# Altium integrated library Dallas Power Mgt Supervisory Circuit.IntLib: 79 symbols (part 2 of 2)
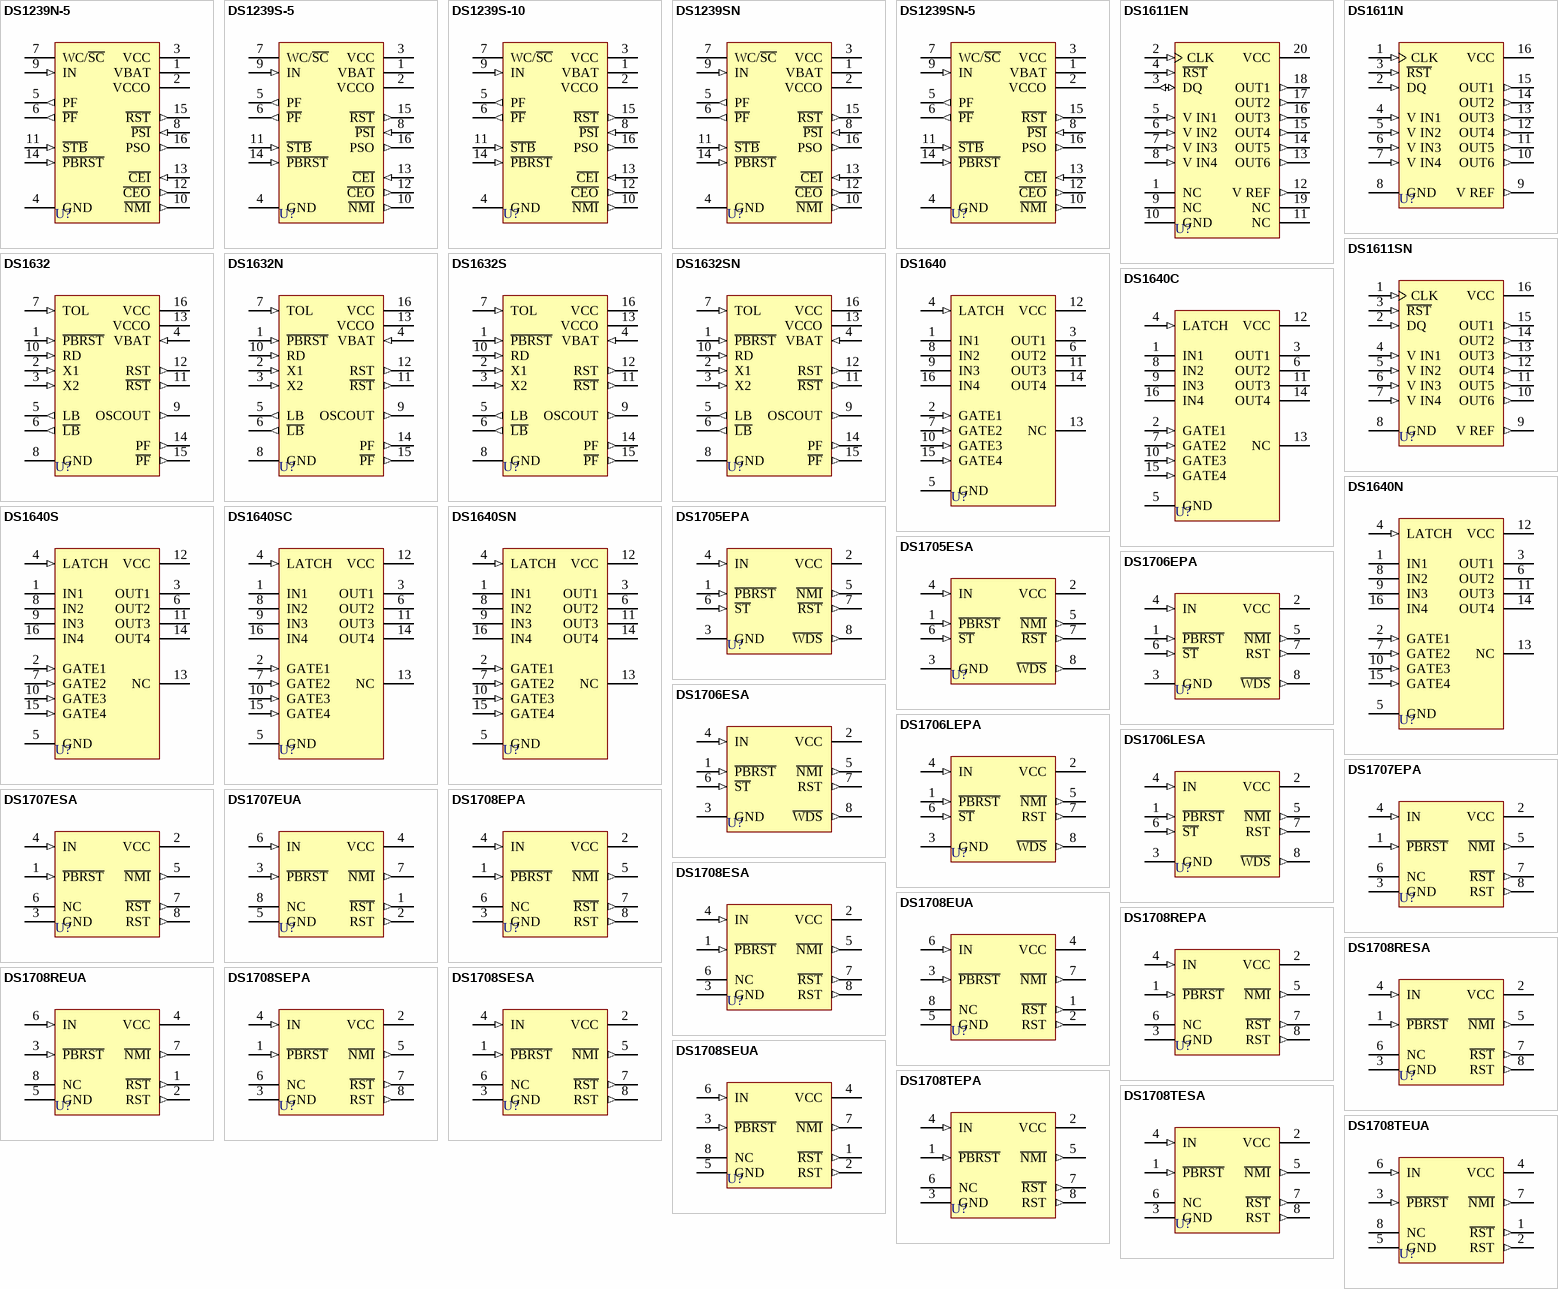
[diagram p2: symbols DS1239N-5 to DS1708TEUA]

## DS1706EPA
designator U?
3.3 and 5.0 Volt MicroMonitor; PackageDocument: 1999; Published: 13-Oct-2000; LatestRevisionDate: 06-Jun-2005; LatestRevisionNote: Stylized 3D Model Added.; DatasheetDocument: 4-Sep-1998; PackageReference: DIP8; Publisher: Altium Limited; ComponentLink1Description: Manufacturer Link; ComponentLink1URL: http://www.maxim-ic.com/; ComponentLink2Description: Datasheet; ComponentLink2URL: http://www.maxim-ic.com/getds.cfm?qv_pk=2761&ln=en
footprint DIP8 (DIP; 8 Leads; Row Spacing 7.62 mm; Pitch 2.54 mm)
3D model DIP8 (DIP; 8 Leads; Row Spacing 7.62 mm; Pitch 2.54 mm)
pins: 1 ~{PBRST} (in), 2 VCC (power), 3 GND (power), 4 IN (in), 5 ~{NMI} (out), 6 ~{ST} (in), 7 RST (out), 8 ~{WDS} (out)

## DS1706ESA
designator U?
3.3 and 5.0 Volt MicroMonitor; PackageDocument: 1999; Published: 13-Oct-2000; LatestRevisionDate: 06-Jun-2005; LatestRevisionNote: Stylized 3D Model Added.; DatasheetDocument: 4-Sep-1998; PackageReference: SOIC8N; Publisher: Altium Limited; ComponentLink1Description: Manufacturer Link; ComponentLink1URL: http://www.maxim-ic.com/; ComponentLink2Description: Datasheet; ComponentLink2URL: http://www.maxim-ic.com/getds.cfm?qv_pk=2761&ln=en
footprint SOIC8N (Small Outline; 8 Leads; Body Width 3.9 mm; Pitch 1.27 mm)
3D model SOIC8N (Small Outline; 8 Leads; Body Width 3.9 mm; Pitch 1.27 mm)
pins: 1 ~{PBRST} (in), 2 VCC (power), 3 GND (power), 4 IN (in), 5 ~{NMI} (out), 6 ~{ST} (in), 7 RST (out), 8 ~{WDS} (out)

## DS1706LEPA
designator U?
3.3 and 5.0 Volt MicroMonitor; PackageDocument: 1999; Published: 13-Oct-2000; LatestRevisionDate: 06-Jun-2005; LatestRevisionNote: Stylized 3D Model Added.; DatasheetDocument: 4-Sep-1998; PackageReference: DIP8; Publisher: Altium Limited; ComponentLink1Description: Manufacturer Link; ComponentLink1URL: http://www.maxim-ic.com/; ComponentLink2Description: Datasheet; ComponentLink2URL: http://www.maxim-ic.com/getds.cfm?qv_pk=2761&ln=en
footprint DIP8 (DIP; 8 Leads; Row Spacing 7.62 mm; Pitch 2.54 mm)
3D model DIP8 (DIP; 8 Leads; Row Spacing 7.62 mm; Pitch 2.54 mm)
pins: 1 ~{PBRST} (in), 2 VCC (power), 3 GND (power), 4 IN (in), 5 ~{NMI} (out), 6 ~{ST} (in), 7 RST (out), 8 ~{WDS} (out)

## DS1706LESA
designator U?
3.3 and 5.0 Volt MicroMonitor; PackageDocument: 1999; Published: 13-Oct-2000; LatestRevisionDate: 06-Jun-2005; LatestRevisionNote: Stylized 3D Model Added.; DatasheetDocument: 4-Sep-1998; PackageReference: SOIC8N; Publisher: Altium Limited; ComponentLink1Description: Manufacturer Link; ComponentLink1URL: http://www.maxim-ic.com/; ComponentLink2Description: Datasheet; ComponentLink2URL: http://www.maxim-ic.com/getds.cfm?qv_pk=2761&ln=en
footprint SOIC8N (Small Outline; 8 Leads; Body Width 3.9 mm; Pitch 1.27 mm)
3D model SOIC8N (Small Outline; 8 Leads; Body Width 3.9 mm; Pitch 1.27 mm)
pins: 1 ~{PBRST} (in), 2 VCC (power), 3 GND (power), 4 IN (in), 5 ~{NMI} (out), 6 ~{ST} (in), 7 RST (out), 8 ~{WDS} (out)

## DS1707EPA
designator U?
3.3 and 5.0 Volt MicroMonitor; PackageDocument: 1999; Note: Pin number 6 is Not Connected (NC); Published: 13-Oct-2000; LatestRevisionDate: 06-Jun-2005; LatestRevisionNote: Stylized 3D Model Added.; DatasheetDocument: 4-Sep-1998; PackageReference: DIP8; Publisher: Altium Limited; ComponentLink1Description: Manufacturer Link; ComponentLink1URL: http://www.maxim-ic.com/; ComponentLink2Description: Datasheet; ComponentLink2URL: http://www.maxim-ic.com/getds.cfm?qv_pk=2762&ln=en
footprint DIP8 (DIP; 8 Leads; Row Spacing 7.62 mm; Pitch 2.54 mm)
3D model DIP8 (DIP; 8 Leads; Row Spacing 7.62 mm; Pitch 2.54 mm)
pins: 1 ~{PBRST} (in), 2 VCC (power), 3 GND (power), 4 IN (in), 5 ~{NMI} (out), 6 NC, 7 ~{RST} (out), 8 RST (out)

## DS1707ESA
designator U?
3.3 and 5.0 Volt MicroMonitor; PackageDocument: 1999; Note: Pin number 6 is Not Connected (NC); Published: 13-Oct-2000; LatestRevisionDate: 06-Jun-2005; LatestRevisionNote: Stylized 3D Model Added.; DatasheetDocument: 4-Sep-1998; PackageReference: SOIC8N; Publisher: Altium Limited; ComponentLink1Description: Manufacturer Link; ComponentLink1URL: http://www.maxim-ic.com/; ComponentLink2Description: Datasheet; ComponentLink2URL: http://www.maxim-ic.com/getds.cfm?qv_pk=2762&ln=en
footprint SOIC8N (Small Outline; 8 Leads; Body Width 3.9 mm; Pitch 1.27 mm)
3D model SOIC8N (Small Outline; 8 Leads; Body Width 3.9 mm; Pitch 1.27 mm)
pins: 1 ~{PBRST} (in), 2 VCC (power), 3 GND (power), 4 IN (in), 5 ~{NMI} (out), 6 NC, 7 ~{RST} (out), 8 RST (out)

## DS1707EUA
designator U?
3.3 and 5.0 Volt MicroMonitor; Note: Pin number 8 is Not Connected (NC); Published: 13-Oct-2000; LatestRevisionDate: 06-Jun-2005; LatestRevisionNote: Stylized 3D Model Added.; DatasheetDocument: 4-Sep-1998; PackageReference: uSOP8; Publisher: Altium Limited; ComponentLink1Description: Manufacturer Link; ComponentLink1URL: http://www.maxim-ic.com/; ComponentLink2Description: Datasheet; ComponentLink2URL: http://www.maxim-ic.com/getds.cfm?qv_pk=2762&ln=en
footprint uSOP8 (Shrink Small Outline; 8 Leads; Body Width 3 mm; Pitch 0.65 mm)
3D model USOP8 (Shrink Small Outline; 8 Leads; Body Width 3 mm; Pitch 0.65 mm)
pins: 1 ~{RST} (out), 2 RST (out), 3 ~{PBRST} (in), 4 VCC (power), 5 GND (power), 6 IN (in), 7 ~{NMI} (out), 8 NC

## DS1708EPA
designator U?
3.3 and 5.0 Volt MicroMonitor; PackageDocument: 1999; Note: Pin number 6 is Not Connected (NC); Published: 13-Oct-2000; LatestRevisionDate: 06-Jun-2005; LatestRevisionNote: Stylized 3D Model Added.; DatasheetDocument: 4-Sep-1998; PackageReference: DIP8; Publisher: Altium Limited; ComponentLink1Description: Manufacturer Link; ComponentLink1URL: http://www.maxim-ic.com/; ComponentLink2Description: Datasheet; ComponentLink2URL: http://www.maxim-ic.com/getds.cfm?qv_pk=2762&ln=en
footprint DIP8 (DIP; 8 Leads; Row Spacing 7.62 mm; Pitch 2.54 mm)
3D model DIP8 (DIP; 8 Leads; Row Spacing 7.62 mm; Pitch 2.54 mm)
pins: 1 ~{PBRST} (in), 2 VCC (power), 3 GND (power), 4 IN (in), 5 ~{NMI} (out), 6 NC, 7 ~{RST} (out), 8 RST (out)

## DS1708ESA
designator U?
3.3 and 5.0 Volt MicroMonitor; PackageDocument: 1999; Note: Pin number 6 is Not Connected (NC); Published: 13-Oct-2000; LatestRevisionDate: 06-Jun-2005; LatestRevisionNote: Stylized 3D Model Added.; DatasheetDocument: 4-Sep-1998; PackageReference: SOIC8N; Publisher: Altium Limited; ComponentLink1Description: Manufacturer Link; ComponentLink1URL: http://www.maxim-ic.com/; ComponentLink2Description: Datasheet; ComponentLink2URL: http://www.maxim-ic.com/getds.cfm?qv_pk=2762&ln=en
footprint SOIC8N (Small Outline; 8 Leads; Body Width 3.9 mm; Pitch 1.27 mm)
3D model SOIC8N (Small Outline; 8 Leads; Body Width 3.9 mm; Pitch 1.27 mm)
pins: 1 ~{PBRST} (in), 2 VCC (power), 3 GND (power), 4 IN (in), 5 ~{NMI} (out), 6 NC, 7 ~{RST} (out), 8 RST (out)

## DS1708EUA
designator U?
3.3 and 5.0 Volt MicroMonitor; Note: Pin number 8 is Not Connected (NC); Published: 13-Oct-2000; LatestRevisionDate: 06-Jun-2005; LatestRevisionNote: Stylized 3D Model Added.; DatasheetDocument: 4-Sep-1998; PackageReference: uSOP8; Publisher: Altium Limited; ComponentLink1Description: Manufacturer Link; ComponentLink1URL: http://www.maxim-ic.com/; ComponentLink2Description: Datasheet; ComponentLink2URL: http://www.maxim-ic.com/getds.cfm?qv_pk=2762&ln=en
footprint uSOP8 (Shrink Small Outline; 8 Leads; Body Width 3 mm; Pitch 0.65 mm)
3D model USOP8 (Shrink Small Outline; 8 Leads; Body Width 3 mm; Pitch 0.65 mm)
pins: 1 ~{RST} (out), 2 RST (out), 3 ~{PBRST} (in), 4 VCC (power), 5 GND (power), 6 IN (in), 7 ~{NMI} (out), 8 NC

## DS1708REPA
designator U?
3.3 and 5.0 Volt MicroMonitor; PackageDocument: 1999; Note: Pin number 6 is Not Connected (NC); Published: 13-Oct-2000; LatestRevisionDate: 06-Jun-2005; LatestRevisionNote: Stylized 3D Model Added.; DatasheetDocument: 4-Sep-1998; PackageReference: DIP8; Publisher: Altium Limited; ComponentLink1Description: Manufacturer Link; ComponentLink1URL: http://www.maxim-ic.com/; ComponentLink2Description: Datasheet; ComponentLink2URL: http://www.maxim-ic.com/getds.cfm?qv_pk=2762&ln=en
footprint DIP8 (DIP; 8 Leads; Row Spacing 7.62 mm; Pitch 2.54 mm)
3D model DIP8 (DIP; 8 Leads; Row Spacing 7.62 mm; Pitch 2.54 mm)
pins: 1 ~{PBRST} (in), 2 VCC (power), 3 GND (power), 4 IN (in), 5 ~{NMI} (out), 6 NC, 7 ~{RST} (out), 8 RST (out)

## DS1708RESA
designator U?
3.3 and 5.0 Volt MicroMonitor; PackageDocument: 1999; Note: Pin number 6 is Not Connected (NC); Published: 13-Oct-2000; LatestRevisionDate: 06-Jun-2005; LatestRevisionNote: Stylized 3D Model Added.; DatasheetDocument: 4-Sep-1998; PackageReference: SOIC8N; Publisher: Altium Limited; ComponentLink1Description: Manufacturer Link; ComponentLink1URL: http://www.maxim-ic.com/; ComponentLink2Description: Datasheet; ComponentLink2URL: http://www.maxim-ic.com/getds.cfm?qv_pk=2762&ln=en
footprint SOIC8N (Small Outline; 8 Leads; Body Width 3.9 mm; Pitch 1.27 mm)
3D model SOIC8N (Small Outline; 8 Leads; Body Width 3.9 mm; Pitch 1.27 mm)
pins: 1 ~{PBRST} (in), 2 VCC (power), 3 GND (power), 4 IN (in), 5 ~{NMI} (out), 6 NC, 7 ~{RST} (out), 8 RST (out)

## DS1708REUA
designator U?
3.3 and 5.0 Volt MicroMonitor; Note: Pin number 8 is Not Connected (NC); Published: 13-Oct-2000; LatestRevisionDate: 06-Jun-2005; LatestRevisionNote: Stylized 3D Model Added.; DatasheetDocument: 4-Sep-1998; PackageReference: uSOP8; Publisher: Altium Limited; ComponentLink1Description: Manufacturer Link; ComponentLink1URL: http://www.maxim-ic.com/; ComponentLink2Description: Datasheet; ComponentLink2URL: http://www.maxim-ic.com/getds.cfm?qv_pk=2762&ln=en
footprint uSOP8 (Shrink Small Outline; 8 Leads; Body Width 3 mm; Pitch 0.65 mm)
3D model USOP8 (Shrink Small Outline; 8 Leads; Body Width 3 mm; Pitch 0.65 mm)
pins: 1 ~{RST} (out), 2 RST (out), 3 ~{PBRST} (in), 4 VCC (power), 5 GND (power), 6 IN (in), 7 ~{NMI} (out), 8 NC

## DS1708SEPA
designator U?
3.3 and 5.0 Volt MicroMonitor; PackageDocument: 1999; Note: Pin number 6 is Not Connected (NC); Published: 13-Oct-2000; LatestRevisionDate: 06-Jun-2005; LatestRevisionNote: Stylized 3D Model Added.; DatasheetDocument: 4-Sep-1998; PackageReference: DIP8; Publisher: Altium Limited; ComponentLink1Description: Manufacturer Link; ComponentLink1URL: http://www.maxim-ic.com/; ComponentLink2Description: Datasheet; ComponentLink2URL: http://www.maxim-ic.com/getds.cfm?qv_pk=2762&ln=en
footprint DIP8 (DIP; 8 Leads; Row Spacing 7.62 mm; Pitch 2.54 mm)
3D model DIP8 (DIP; 8 Leads; Row Spacing 7.62 mm; Pitch 2.54 mm)
pins: 1 ~{PBRST} (in), 2 VCC (power), 3 GND (power), 4 IN (in), 5 ~{NMI} (out), 6 NC, 7 ~{RST} (out), 8 RST (out)

## DS1708SESA
designator U?
3.3 and 5.0 Volt MicroMonitor; PackageDocument: 1999; Note: Pin number 6 is Not Connected (NC); Published: 13-Oct-2000; LatestRevisionDate: 06-Jun-2005; LatestRevisionNote: Stylized 3D Model Added.; DatasheetDocument: 4-Sep-1998; PackageReference: SOIC8N; Publisher: Altium Limited; ComponentLink1Description: Manufacturer Link; ComponentLink1URL: http://www.maxim-ic.com/; ComponentLink2Description: Datasheet; ComponentLink2URL: http://www.maxim-ic.com/getds.cfm?qv_pk=2762&ln=en
footprint SOIC8N (Small Outline; 8 Leads; Body Width 3.9 mm; Pitch 1.27 mm)
3D model SOIC8N (Small Outline; 8 Leads; Body Width 3.9 mm; Pitch 1.27 mm)
pins: 1 ~{PBRST} (in), 2 VCC (power), 3 GND (power), 4 IN (in), 5 ~{NMI} (out), 6 NC, 7 ~{RST} (out), 8 RST (out)

## DS1708SEUA
designator U?
3.3 and 5.0 Volt MicroMonitor; Note: Pin number 8 is Not Connected (NC); Published: 13-Oct-2000; LatestRevisionDate: 06-Jun-2005; LatestRevisionNote: Stylized 3D Model Added.; DatasheetDocument: 4-Sep-1998; PackageReference: uSOP8; Publisher: Altium Limited; ComponentLink1Description: Manufacturer Link; ComponentLink1URL: http://www.maxim-ic.com/; ComponentLink2Description: Datasheet; ComponentLink2URL: http://www.maxim-ic.com/getds.cfm?qv_pk=2762&ln=en
footprint uSOP8 (Shrink Small Outline; 8 Leads; Body Width 3 mm; Pitch 0.65 mm)
3D model USOP8 (Shrink Small Outline; 8 Leads; Body Width 3 mm; Pitch 0.65 mm)
pins: 1 ~{RST} (out), 2 RST (out), 3 ~{PBRST} (in), 4 VCC (power), 5 GND (power), 6 IN (in), 7 ~{NMI} (out), 8 NC

## DS1708TEPA
designator U?
3.3 and 5.0 Volt MicroMonitor; PackageDocument: 1999; Note: Pin number 6 is Not Connected (NC); Published: 13-Oct-2000; LatestRevisionDate: 06-Jun-2005; LatestRevisionNote: Stylized 3D Model Added.; DatasheetDocument: 4-Sep-1998; PackageReference: DIP8; Publisher: Altium Limited; ComponentLink1Description: Manufacturer Link; ComponentLink1URL: http://www.maxim-ic.com/; ComponentLink2Description: Datasheet; ComponentLink2URL: http://www.maxim-ic.com/getds.cfm?qv_pk=2762&ln=en
footprint DIP8 (DIP; 8 Leads; Row Spacing 7.62 mm; Pitch 2.54 mm)
3D model DIP8 (DIP; 8 Leads; Row Spacing 7.62 mm; Pitch 2.54 mm)
pins: 1 ~{PBRST} (in), 2 VCC (power), 3 GND (power), 4 IN (in), 5 ~{NMI} (out), 6 NC, 7 ~{RST} (out), 8 RST (out)

## DS1708TESA
designator U?
3.3 and 5.0 Volt MicroMonitor; PackageDocument: 1999; Note: Pin number 6 is Not Connected (NC); Published: 13-Oct-2000; LatestRevisionDate: 06-Jun-2005; LatestRevisionNote: Stylized 3D Model Added.; DatasheetDocument: 4-Sep-1998; PackageReference: SOIC8N; Publisher: Altium Limited; ComponentLink1Description: Manufacturer Link; ComponentLink1URL: http://www.maxim-ic.com/; ComponentLink2Description: Datasheet; ComponentLink2URL: http://www.maxim-ic.com/getds.cfm?qv_pk=2762&ln=en
footprint SOIC8N (Small Outline; 8 Leads; Body Width 3.9 mm; Pitch 1.27 mm)
3D model SOIC8N (Small Outline; 8 Leads; Body Width 3.9 mm; Pitch 1.27 mm)
pins: 1 ~{PBRST} (in), 2 VCC (power), 3 GND (power), 4 IN (in), 5 ~{NMI} (out), 6 NC, 7 ~{RST} (out), 8 RST (out)

## DS1708TEUA
designator U?
3.3 and 5.0 Volt MicroMonitor; Note: Pin number 8 is Not Connected (NC); Published: 13-Oct-2000; LatestRevisionDate: 06-Jun-2005; LatestRevisionNote: Stylized 3D Model Added.; DatasheetDocument: 4-Sep-1998; PackageReference: uSOP8; Publisher: Altium Limited; ComponentLink1Description: Manufacturer Link; ComponentLink1URL: http://www.maxim-ic.com/; ComponentLink2Description: Datasheet; ComponentLink2URL: http://www.maxim-ic.com/getds.cfm?qv_pk=2762&ln=en
footprint uSOP8 (Shrink Small Outline; 8 Leads; Body Width 3 mm; Pitch 0.65 mm)
3D model USOP8 (Shrink Small Outline; 8 Leads; Body Width 3 mm; Pitch 0.65 mm)
pins: 1 ~{RST} (out), 2 RST (out), 3 ~{PBRST} (in), 4 VCC (power), 5 GND (power), 6 IN (in), 7 ~{NMI} (out), 8 NC